# EAGLE library part HEADER_16 (library Parts)
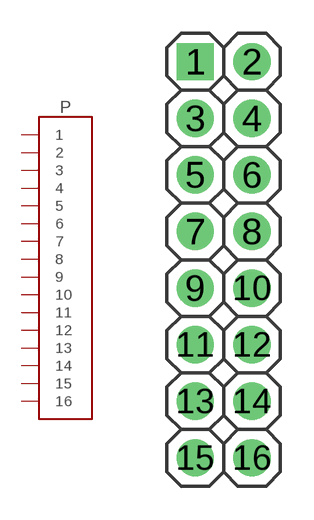
[diagram p9: symbol with the pads of HEADER_16; footprint HEADER_16]

Designator prefix P

## HEADER_16  [HEADER_16]
1  1  pas
2  2  pas
3  3  pas
4  4  pas
5  5  pas
6  6  pas
7  7  pas
8  8  pas
9  9  pas
10  10  pas
11  11  pas
12  12  pas
13  13  pas
14  14  pas
15  15  pas
16  16  pas

## Footprint HEADER_16 (pad centres in mm)
drill 1 pad 1.676 square: 1 -1.27,8.89
drill 1 pad 1.676: 2 1.27,8.89; 3 -1.27,6.35; 4 1.27,6.35; 5 -1.27,3.81; 6 1.27,3.81; 7 -1.27,1.27; 8 1.27,1.27; 9 -1.27,-1.27; 10 1.27,-1.27; 11 -1.27,-3.81; 12 1.27,-3.81; 13 -1.27,-6.35; 14 1.27,-6.35; 15 -1.27,-8.89; 16 1.27,-8.89